# EAGLE library part RFPA0133 (library New_Parts_IC-Comms)
IC PROG PWR AMP 16-QFN Source: Datasheet <http://www.qorvo.com/products/d/da000936>
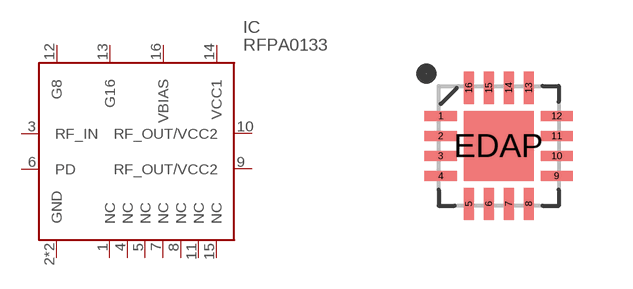
[diagram p1: symbol with the pads of QFN50P300X300X86-17N; footprint QFN50P300X300X86-17N]

Designator prefix IC

## RFPA0133 (MANUFACTURER_NAME: Qorvo; MANUFACTURER_PART_NUMBER: RFPA0133TR7; MOUSER_PART_NUMBER: 772-RFPA0133; PROD_ID: IC-15274)  [QFN50P300X300X86-17N]
1  NC  nc
2  GND  pwr
3  RF_IN  in
4  NC  nc
5  NC  nc
6  PD  in
7  NC  nc
8  NC  nc
9  RF_OUT/VCC2  out
10  RF_OUT/VCC2  out
11  NC  nc
12  G8  in
13  G16  in
14  VCC1  pwr
15  NC  nc
16  VBIAS  pwr
EDAP  GND  pwr

## Footprint QFN50P300X300X86-17N (pad centres in mm)
16-QFN
smd 0.8 x 0.25: 1 -1.45,0.75; 2 -1.45,0.25; 3 -1.45,-0.25; 4 -1.45,-0.75; 9 1.45,-0.75; 10 1.45,-0.25; 11 1.45,0.25; 12 1.45,0.75
smd 0.25 x 0.8: 5 -0.75,-1.45; 6 -0.25,-1.45; 7 0.25,-1.45; 8 0.75,-1.45; 13 0.75,1.45; 14 0.25,1.45; 15 -0.25,1.45; 16 -0.75,1.45
smd 1.75 x 1.75: EDAP 0,0